# Altium footprint library IPC-SM-782 Section 11.2 SQFP_QFP-Square.PcbLib: 78 footprints (part 4 of 7)
Each footprint in its own frame and in the unit in brackets; x right, y up, seen from the top. Pads: shape width x height; smd on the part's side, far side on the other; paste and mask are expansions set on the pad; w line width, h text height; cw(c..) or ccw(c..) is an arc to the next point about the centre after c.
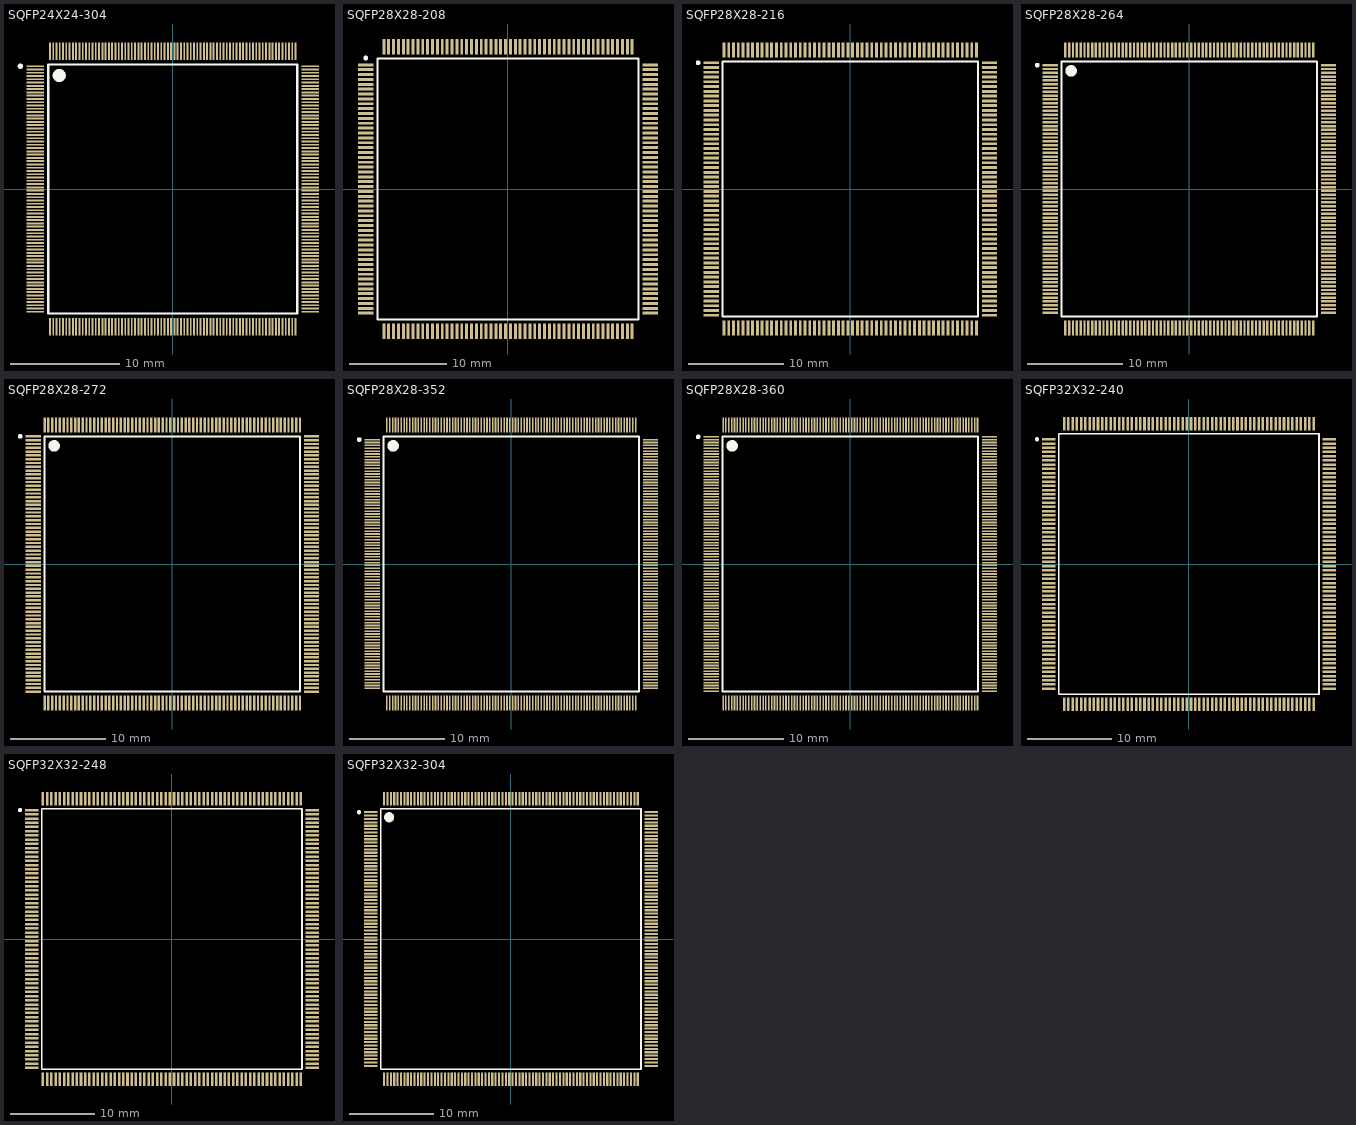
[diagram p3: the footprints below, top view; thin cyan lines are the x and y axes]

## SQFP24X24-304 [mm] "QFP; 304 Leads; Body 24 x 24 mm; Pitch 0.3 mm"
height 3.2
pads (304):
  rect 1.6x0.17 smd: 1(-12.6,11.25) 2(-12.6,10.95) 3(-12.6,10.65) 4(-12.6,10.35) 5(-12.6,10.05) 6(-12.6,9.75) 7(-12.6,9.45) 8(-12.6,9.15) 9(-12.6,8.85) 10(-12.6,8.55) 11(-12.6,8.25) 12(-12.6,7.95) 13(-12.6,7.65) 14(-12.6,7.35) 15(-12.6,7.05) 16(-12.6,6.75) 17(-12.6,6.45) 18(-12.6,6.15) 19(-12.6,5.85) 20(-12.6,5.55) 21(-12.6,5.25) 22(-12.6,4.95) 23(-12.6,4.65) 24(-12.6,4.35) 25(-12.6,4.05) 26(-12.6,3.75) 27(-12.6,3.45) 28(-12.6,3.15) 29(-12.6,2.85) 30(-12.6,2.55) 31(-12.6,2.25) 32(-12.6,1.95) 33(-12.6,1.65) 34(-12.6,1.35) 35(-12.6,1.05) 36(-12.6,0.75) 37(-12.6,0.45) 38(-12.6,0.15) 39(-12.6,-0.15) 40(-12.6,-0.45) 41(-12.6,-0.75) 42(-12.6,-1.05) 43(-12.6,-1.35) 44(-12.6,-1.65) 45(-12.6,-1.95) 46(-12.6,-2.25) 47(-12.6,-2.55) 48(-12.6,-2.85) 49(-12.6,-3.15) 50(-12.6,-3.45) 51(-12.6,-3.75) 52(-12.6,-4.05) 53(-12.6,-4.35) 54(-12.6,-4.65) 55(-12.6,-4.95) 56(-12.6,-5.25) 57(-12.6,-5.55) 58(-12.6,-5.85) 59(-12.6,-6.15) 60(-12.6,-6.45) 61(-12.6,-6.75) 62(-12.6,-7.05) 63(-12.6,-7.35) 64(-12.6,-7.65) 65(-12.6,-7.95) 66(-12.6,-8.25) 67(-12.6,-8.55) 68(-12.6,-8.85) 69(-12.6,-9.15) 70(-12.6,-9.45) 71(-12.6,-9.75) 72(-12.6,-10.05) 73(-12.6,-10.35) 74(-12.6,-10.65) 75(-12.6,-10.95) 76(-12.6,-11.25) 153(12.6,-11.25) 154(12.6,-10.95) 155(12.6,-10.65) 156(12.6,-10.35) 157(12.6,-10.05) 158(12.6,-9.75) 159(12.6,-9.45) 160(12.6,-9.15) 161(12.6,-8.85) 162(12.6,-8.55) 163(12.6,-8.25) 164(12.6,-7.95) 165(12.6,-7.65) 166(12.6,-7.35) 167(12.6,-7.05) 168(12.6,-6.75) 169(12.6,-6.45) 170(12.6,-6.15) 171(12.6,-5.85) 172(12.6,-5.55) 173(12.6,-5.25) 174(12.6,-4.95) 175(12.6,-4.65) 176(12.6,-4.35) 177(12.6,-4.05) 178(12.6,-3.75) 179(12.6,-3.45) 180(12.6,-3.15) 181(12.6,-2.85) 182(12.6,-2.55) 183(12.6,-2.25) 184(12.6,-1.95) 185(12.6,-1.65) 186(12.6,-1.35) 187(12.6,-1.05) 188(12.6,-0.75) 189(12.6,-0.45) 190(12.6,-0.15) 191(12.6,0.15) 192(12.6,0.45) 193(12.6,0.75) 194(12.6,1.05) 195(12.6,1.35) 196(12.6,1.65) 197(12.6,1.95) 198(12.6,2.25) 199(12.6,2.55) 200(12.6,2.85) 201(12.6,3.15) 202(12.6,3.45) 203(12.6,3.75) 204(12.6,4.05) 205(12.6,4.35) 206(12.6,4.65) 207(12.6,4.95) 208(12.6,5.25) 209(12.6,5.55) 210(12.6,5.85) 211(12.6,6.15) 212(12.6,6.45) 213(12.6,6.75) 214(12.6,7.05) 215(12.6,7.35) 216(12.6,7.65) 217(12.6,7.95) 218(12.6,8.25) 219(12.6,8.55) 220(12.6,8.85) 221(12.6,9.15) 222(12.6,9.45) 223(12.6,9.75) 224(12.6,10.05) 225(12.6,10.35) 226(12.6,10.65) 227(12.6,10.95) 228(12.6,11.25)
  rect 0.17x1.6 smd: 77(-11.25,-12.6) 78(-10.95,-12.6) 79(-10.65,-12.6) 80(-10.35,-12.6) 81(-10.05,-12.6) 82(-9.75,-12.6) 83(-9.45,-12.6) 84(-9.15,-12.6) 85(-8.85,-12.6) 86(-8.55,-12.6) 87(-8.25,-12.6) 88(-7.95,-12.6) 89(-7.65,-12.6) 90(-7.35,-12.6) 91(-7.05,-12.6) 92(-6.75,-12.6) 93(-6.45,-12.6) 94(-6.15,-12.6) 95(-5.85,-12.6) 96(-5.55,-12.6) 97(-5.25,-12.6) 98(-4.95,-12.6) 99(-4.65,-12.6) 100(-4.35,-12.6) 101(-4.05,-12.6) 102(-3.75,-12.6) 103(-3.45,-12.6) 104(-3.15,-12.6) 105(-2.85,-12.6) 106(-2.55,-12.6) 107(-2.25,-12.6) 108(-1.95,-12.6) 109(-1.65,-12.6) 110(-1.35,-12.6) 111(-1.05,-12.6) 112(-0.75,-12.6) 113(-0.45,-12.6) 114(-0.15,-12.6) 115(0.15,-12.6) 116(0.45,-12.6) 117(0.75,-12.6) 118(1.05,-12.6) 119(1.35,-12.6) 120(1.65,-12.6) 121(1.95,-12.6) 122(2.25,-12.6) 123(2.55,-12.6) 124(2.85,-12.6) 125(3.15,-12.6) 126(3.45,-12.6) 127(3.75,-12.6) 128(4.05,-12.6) 129(4.35,-12.6) 130(4.65,-12.6) 131(4.95,-12.6) 132(5.25,-12.6) 133(5.55,-12.6) 134(5.85,-12.6) 135(6.15,-12.6) 136(6.45,-12.6) 137(6.75,-12.6) 138(7.05,-12.6) 139(7.35,-12.6) 140(7.65,-12.6) 141(7.95,-12.6) 142(8.25,-12.6) 143(8.55,-12.6) 144(8.85,-12.6) 145(9.15,-12.6) 146(9.45,-12.6) 147(9.75,-12.6) 148(10.05,-12.6) 149(10.35,-12.6) 150(10.65,-12.6) 151(10.95,-12.6) 152(11.25,-12.6) 229(11.25,12.6) 230(10.95,12.6) 231(10.65,12.6) 232(10.35,12.6) 233(10.05,12.6) 234(9.75,12.6) 235(9.45,12.6) 236(9.15,12.6) 237(8.85,12.6) 238(8.55,12.6) 239(8.25,12.6) 240(7.95,12.6) 241(7.65,12.6) 242(7.35,12.6) 243(7.05,12.6) 244(6.75,12.6) 245(6.45,12.6) 246(6.15,12.6) 247(5.85,12.6) 248(5.55,12.6) 249(5.25,12.6) 250(4.95,12.6) 251(4.65,12.6) 252(4.35,12.6) 253(4.05,12.6) 254(3.75,12.6) 255(3.45,12.6) 256(3.15,12.6) 257(2.85,12.6) 258(2.55,12.6) 259(2.25,12.6) 260(1.95,12.6) 261(1.65,12.6) 262(1.35,12.6) 263(1.05,12.6) 264(0.75,12.6) 265(0.45,12.6) 266(0.15,12.6) 267(-0.15,12.6) 268(-0.45,12.6) 269(-0.75,12.6) 270(-1.05,12.6) 271(-1.35,12.6) 272(-1.65,12.6) 273(-1.95,12.6) 274(-2.25,12.6) 275(-2.55,12.6) 276(-2.85,12.6) 277(-3.15,12.6) 278(-3.45,12.6) 279(-3.75,12.6) 280(-4.05,12.6) 281(-4.35,12.6) 282(-4.65,12.6) 283(-4.95,12.6) 284(-5.25,12.6) 285(-5.55,12.6) 286(-5.85,12.6) 287(-6.15,12.6) 288(-6.45,12.6) 289(-6.75,12.6) 290(-7.05,12.6) 291(-7.35,12.6) 292(-7.65,12.6) 293(-7.95,12.6) 294(-8.25,12.6) 295(-8.55,12.6) 296(-8.85,12.6) 297(-9.15,12.6) 298(-9.45,12.6) 299(-9.75,12.6) 300(-10.05,12.6) 301(-10.35,12.6) 302(-10.65,12.6) 303(-10.95,12.6) 304(-11.25,12.6)
Top Overlay:
  circle w0.6: c-10.4,10.4 r0.3
  circle w0.25: c-13.96,11.25 r0.125
  lines w0.2: -11.4,-11.4 -11.4,11.4 11.4,11.4 11.4,-11.4 -11.4,-11.4

## SQFP28X28-208 [mm] "QFP; 208 Leads; Body 28 x 28 mm; Pitch 0.5 mm"
height 3.75
pads (208):
  rect 1.6x0.3 smd: 1(-14.6,12.75) 2(-14.6,12.25) 3(-14.6,11.75) 4(-14.6,11.25) 5(-14.6,10.75) 6(-14.6,10.25) 7(-14.6,9.75) 8(-14.6,9.25) 9(-14.6,8.75) 10(-14.6,8.25) 11(-14.6,7.75) 12(-14.6,7.25) 13(-14.6,6.75) 14(-14.6,6.25) 15(-14.6,5.75) 16(-14.6,5.25) 17(-14.6,4.75) 18(-14.6,4.25) 19(-14.6,3.75) 20(-14.6,3.25) 21(-14.6,2.75) 22(-14.6,2.25) 23(-14.6,1.75) 24(-14.6,1.25) 25(-14.6,0.75) 26(-14.6,0.25) 27(-14.6,-0.25) 28(-14.6,-0.75) 29(-14.6,-1.25) 30(-14.6,-1.75) 31(-14.6,-2.25) 32(-14.6,-2.75) 33(-14.6,-3.25) 34(-14.6,-3.75) 35(-14.6,-4.25) 36(-14.6,-4.75) 37(-14.6,-5.25) 38(-14.6,-5.75) 39(-14.6,-6.25) 40(-14.6,-6.75) 41(-14.6,-7.25) 42(-14.6,-7.75) 43(-14.6,-8.25) 44(-14.6,-8.75) 45(-14.6,-9.25) 46(-14.6,-9.75) 47(-14.6,-10.25) 48(-14.6,-10.75) 49(-14.6,-11.25) 50(-14.6,-11.75) 51(-14.6,-12.25) 52(-14.6,-12.75) 105(14.6,-12.75) 106(14.6,-12.25) 107(14.6,-11.75) 108(14.6,-11.25) 109(14.6,-10.75) 110(14.6,-10.25) 111(14.6,-9.75) 112(14.6,-9.25) 113(14.6,-8.75) 114(14.6,-8.25) 115(14.6,-7.75) 116(14.6,-7.25) 117(14.6,-6.75) 118(14.6,-6.25) 119(14.6,-5.75) 120(14.6,-5.25) 121(14.6,-4.75) 122(14.6,-4.25) 123(14.6,-3.75) 124(14.6,-3.25) 125(14.6,-2.75) 126(14.6,-2.25) 127(14.6,-1.75) 128(14.6,-1.25) 129(14.6,-0.75) 130(14.6,-0.25) 131(14.6,0.25) 132(14.6,0.75) 133(14.6,1.25) 134(14.6,1.75) 135(14.6,2.25) 136(14.6,2.75) 137(14.6,3.25) 138(14.6,3.75) 139(14.6,4.25) 140(14.6,4.75) 141(14.6,5.25) 142(14.6,5.75) 143(14.6,6.25) 144(14.6,6.75) 145(14.6,7.25) 146(14.6,7.75) 147(14.6,8.25) 148(14.6,8.75) 149(14.6,9.25) 150(14.6,9.75) 151(14.6,10.25) 152(14.6,10.75) 153(14.6,11.25) 154(14.6,11.75) 155(14.6,12.25) 156(14.6,12.75)
  rect 0.3x1.6 smd: 53(-12.75,-14.6) 54(-12.25,-14.6) 55(-11.75,-14.6) 56(-11.25,-14.6) 57(-10.75,-14.6) 58(-10.25,-14.6) 59(-9.75,-14.6) 60(-9.25,-14.6) 61(-8.75,-14.6) 62(-8.25,-14.6) 63(-7.75,-14.6) 64(-7.25,-14.6) 65(-6.75,-14.6) 66(-6.25,-14.6) 67(-5.75,-14.6) 68(-5.25,-14.6) 69(-4.75,-14.6) 70(-4.25,-14.6) 71(-3.75,-14.6) 72(-3.25,-14.6) 73(-2.75,-14.6) 74(-2.25,-14.6) 75(-1.75,-14.6) 76(-1.25,-14.6) 77(-0.75,-14.6) 78(-0.25,-14.6) 79(0.25,-14.6) 80(0.75,-14.6) 81(1.25,-14.6) 82(1.75,-14.6) 83(2.25,-14.6) 84(2.75,-14.6) 85(3.25,-14.6) 86(3.75,-14.6) 87(4.25,-14.6) 88(4.75,-14.6) 89(5.25,-14.6) 90(5.75,-14.6) 91(6.25,-14.6) 92(6.75,-14.6) 93(7.25,-14.6) 94(7.75,-14.6) 95(8.25,-14.6) 96(8.75,-14.6) 97(9.25,-14.6) 98(9.75,-14.6) 99(10.25,-14.6) 100(10.75,-14.6) 101(11.25,-14.6) 102(11.75,-14.6) 103(12.25,-14.6) 104(12.75,-14.6) 157(12.75,14.6) 158(12.25,14.6) 159(11.75,14.6) 160(11.25,14.6) 161(10.75,14.6) 162(10.25,14.6) 163(9.75,14.6) 164(9.25,14.6) 165(8.75,14.6) 166(8.25,14.6) 167(7.75,14.6) 168(7.25,14.6) 169(6.75,14.6) 170(6.25,14.6) 171(5.75,14.6) 172(5.25,14.6) 173(4.75,14.6) 174(4.25,14.6) 175(3.75,14.6) 176(3.25,14.6) 177(2.75,14.6) 178(2.25,14.6) 179(1.75,14.6) 180(1.25,14.6) 181(0.75,14.6) 182(0.25,14.6) 183(-0.25,14.6) 184(-0.75,14.6) 185(-1.25,14.6) 186(-1.75,14.6) 187(-2.25,14.6) 188(-2.75,14.6) 189(-3.25,14.6) 190(-3.75,14.6) 191(-4.25,14.6) 192(-4.75,14.6) 193(-5.25,14.6) 194(-5.75,14.6) 195(-6.25,14.6) 196(-6.75,14.6) 197(-7.25,14.6) 198(-7.75,14.6) 199(-8.25,14.6) 200(-8.75,14.6) 201(-9.25,14.6) 202(-9.75,14.6) 203(-10.25,14.6) 204(-10.75,14.6) 205(-11.25,14.6) 206(-11.75,14.6) 207(-12.25,14.6) 208(-12.75,14.6)
Top Overlay:
  circle w0.25: c-14.6,13.45 r0.125
  lines w0.2: -13.4,-13.4 13.4,-13.4 13.4,13.4 -13.4,13.4 -13.4,-13.4

## SQFP28X28-216 [mm] "QFP; 216 Leads; Body 28 x 28 mm; Pitch 0.5 mm"
height 3.75
pads (216):
  rect 1.6x0.3 smd: 1(-14.6,13.25) 2(-14.6,12.75) 3(-14.6,12.25) 4(-14.6,11.75) 5(-14.6,11.25) 6(-14.6,10.75) 7(-14.6,10.25) 8(-14.6,9.75) 9(-14.6,9.25) 10(-14.6,8.75) 11(-14.6,8.25) 12(-14.6,7.75) 13(-14.6,7.25) 14(-14.6,6.75) 15(-14.6,6.25) 16(-14.6,5.75) 17(-14.6,5.25) 18(-14.6,4.75) 19(-14.6,4.25) 20(-14.6,3.75) 21(-14.6,3.25) 22(-14.6,2.75) 23(-14.6,2.25) 24(-14.6,1.75) 25(-14.6,1.25) 26(-14.6,0.75) 27(-14.6,0.25) 28(-14.6,-0.25) 29(-14.6,-0.75) 30(-14.6,-1.25) 31(-14.6,-1.75) 32(-14.6,-2.25) 33(-14.6,-2.75) 34(-14.6,-3.25) 35(-14.6,-3.75) 36(-14.6,-4.25) 37(-14.6,-4.75) 38(-14.6,-5.25) 39(-14.6,-5.75) 40(-14.6,-6.25) 41(-14.6,-6.75) 42(-14.6,-7.25) 43(-14.6,-7.75) 44(-14.6,-8.25) 45(-14.6,-8.75) 46(-14.6,-9.25) 47(-14.6,-9.75) 48(-14.6,-10.25) 49(-14.6,-10.75) 50(-14.6,-11.25) 51(-14.6,-11.75) 52(-14.6,-12.25) 53(-14.6,-12.75) 54(-14.6,-13.25) 109(14.6,-13.25) 110(14.6,-12.75) 111(14.6,-12.25) 112(14.6,-11.75) 113(14.6,-11.25) 114(14.6,-10.75) 115(14.6,-10.25) 116(14.6,-9.75) 117(14.6,-9.25) 118(14.6,-8.75) 119(14.6,-8.25) 120(14.6,-7.75) 121(14.6,-7.25) 122(14.6,-6.75) 123(14.6,-6.25) 124(14.6,-5.75) 125(14.6,-5.25) 126(14.6,-4.75) 127(14.6,-4.25) 128(14.6,-3.75) 129(14.6,-3.25) 130(14.6,-2.75) 131(14.6,-2.25) 132(14.6,-1.75) 133(14.6,-1.25) 134(14.6,-0.75) 135(14.6,-0.25) 136(14.6,0.25) 137(14.6,0.75) 138(14.6,1.25) 139(14.6,1.75) 140(14.6,2.25) 141(14.6,2.75) 142(14.6,3.25) 143(14.6,3.75) 144(14.6,4.25) 145(14.6,4.75) 146(14.6,5.25) 147(14.6,5.75) 148(14.6,6.25) 149(14.6,6.75) 150(14.6,7.25) 151(14.6,7.75) 152(14.6,8.25) 153(14.6,8.75) 154(14.6,9.25) 155(14.6,9.75) 156(14.6,10.25) 157(14.6,10.75) 158(14.6,11.25) 159(14.6,11.75) 160(14.6,12.25) 161(14.6,12.75) 162(14.6,13.25)
  rect 0.3x1.6 smd: 55(-13.25,-14.6) 56(-12.75,-14.6) 57(-12.25,-14.6) 58(-11.75,-14.6) 59(-11.25,-14.6) 60(-10.75,-14.6) 61(-10.25,-14.6) 62(-9.75,-14.6) 63(-9.25,-14.6) 64(-8.75,-14.6) 65(-8.25,-14.6) 66(-7.75,-14.6) 67(-7.25,-14.6) 68(-6.75,-14.6) 69(-6.25,-14.6) 70(-5.75,-14.6) 71(-5.25,-14.6) 72(-4.75,-14.6) 73(-4.25,-14.6) 74(-3.75,-14.6) 75(-3.25,-14.6) 76(-2.75,-14.6) 77(-2.25,-14.6) 78(-1.75,-14.6) 79(-1.25,-14.6) 80(-0.75,-14.6) 81(-0.25,-14.6) 82(0.25,-14.6) 83(0.75,-14.6) 84(1.25,-14.6) 85(1.75,-14.6) 86(2.25,-14.6) 87(2.75,-14.6) 88(3.25,-14.6) 89(3.75,-14.6) 90(4.25,-14.6) 91(4.75,-14.6) 92(5.25,-14.6) 93(5.75,-14.6) 94(6.25,-14.6) 95(6.75,-14.6) 96(7.25,-14.6) 97(7.75,-14.6) 98(8.25,-14.6) 99(8.75,-14.6) 100(9.25,-14.6) 101(9.75,-14.6) 102(10.25,-14.6) 103(10.75,-14.6) 104(11.25,-14.6) 105(11.75,-14.6) 106(12.25,-14.6) 107(12.75,-14.6) 108(13.25,-14.6) 163(13.25,14.6) 164(12.75,14.6) 165(12.25,14.6) 166(11.75,14.6) 167(11.25,14.6) 168(10.75,14.6) 169(10.25,14.6) 170(9.75,14.6) 171(9.25,14.6) 172(8.75,14.6) 173(8.25,14.6) 174(7.75,14.6) 175(7.25,14.6) 176(6.75,14.6) 177(6.25,14.6) 178(5.75,14.6) 179(5.25,14.6) 180(4.75,14.6) 181(4.25,14.6) 182(3.75,14.6) 183(3.25,14.6) 184(2.75,14.6) 185(2.25,14.6) 186(1.75,14.6) 187(1.25,14.6) 188(0.75,14.6) 189(0.25,14.6) 190(-0.25,14.6) 191(-0.75,14.6) 192(-1.25,14.6) 193(-1.75,14.6) 194(-2.25,14.6) 195(-2.75,14.6) 196(-3.25,14.6) 197(-3.75,14.6) 198(-4.25,14.6) 199(-4.75,14.6) 200(-5.25,14.6) 201(-5.75,14.6) 202(-6.25,14.6) 203(-6.75,14.6) 204(-7.25,14.6) 205(-7.75,14.6) 206(-8.25,14.6) 207(-8.75,14.6) 208(-9.25,14.6) 209(-9.75,14.6) 210(-10.25,14.6) 211(-10.75,14.6) 212(-11.25,14.6) 213(-11.75,14.6) 214(-12.25,14.6) 215(-12.75,14.6) 216(-13.25,14.6)
Top Overlay:
  circle w0.25: c-15.96,13.25 r0.125
  lines w0.2: -13.4,-13.4 13.4,-13.4 13.4,13.4 -13.4,13.4 -13.4,-13.4

## SQFP28X28-264 [mm] "QFP; 264 Leads; Body 28 x 28 mm; Pitch 0.4 mm"
height 3.75
pads (264):
  rect 1.6x0.25 smd: 1(-14.6,13) 2(-14.6,12.6) 3(-14.6,12.2) 4(-14.6,11.8) 5(-14.6,11.4) 6(-14.6,11) 7(-14.6,10.6) 8(-14.6,10.2) 9(-14.6,9.8) 10(-14.6,9.4) 11(-14.6,9) 12(-14.6,8.6) 13(-14.6,8.2) 14(-14.6,7.8) 15(-14.6,7.4) 16(-14.6,7) 17(-14.6,6.6) 18(-14.6,6.2) 19(-14.6,5.8) 20(-14.6,5.4) 21(-14.6,5) 22(-14.6,4.6) 23(-14.6,4.2) 24(-14.6,3.8) 25(-14.6,3.4) 26(-14.6,3) 27(-14.6,2.6) 28(-14.6,2.2) 29(-14.6,1.8) 30(-14.6,1.4) 31(-14.6,1) 32(-14.6,0.6) 33(-14.6,0.2) 34(-14.6,-0.2) 35(-14.6,-0.6) 36(-14.6,-1) 37(-14.6,-1.4) 38(-14.6,-1.8) 39(-14.6,-2.2) 40(-14.6,-2.6) 41(-14.6,-3) 42(-14.6,-3.4) 43(-14.6,-3.8) 44(-14.6,-4.2) 45(-14.6,-4.6) 46(-14.6,-5) 47(-14.6,-5.4) 48(-14.6,-5.8) 49(-14.6,-6.2) 50(-14.6,-6.6) 51(-14.6,-7) 52(-14.6,-7.4) 53(-14.6,-7.8) 54(-14.6,-8.2) 55(-14.6,-8.6) 56(-14.6,-9) 57(-14.6,-9.4) 58(-14.6,-9.8) 59(-14.6,-10.2) 60(-14.6,-10.6) 61(-14.6,-11) 62(-14.6,-11.4) 63(-14.6,-11.8) 64(-14.6,-12.2) 65(-14.6,-12.6) 66(-14.6,-13) 133(14.6,-13) 134(14.6,-12.6) 135(14.6,-12.2) 136(14.6,-11.8) 137(14.6,-11.4) 138(14.6,-11) 139(14.6,-10.6) 140(14.6,-10.2) 141(14.6,-9.8) 142(14.6,-9.4) 143(14.6,-9) 144(14.6,-8.6) 145(14.6,-8.2) 146(14.6,-7.8) 147(14.6,-7.4) 148(14.6,-7) 149(14.6,-6.6) 150(14.6,-6.2) 151(14.6,-5.8) 152(14.6,-5.4) 153(14.6,-5) 154(14.6,-4.6) 155(14.6,-4.2) 156(14.6,-3.8) 157(14.6,-3.4) 158(14.6,-3) 159(14.6,-2.6) 160(14.6,-2.2) 161(14.6,-1.8) 162(14.6,-1.4) 163(14.6,-1) 164(14.6,-0.6) 165(14.6,-0.2) 166(14.6,0.2) 167(14.6,0.6) 168(14.6,1) 169(14.6,1.4) 170(14.6,1.8) 171(14.6,2.2) 172(14.6,2.6) 173(14.6,3) 174(14.6,3.4) 175(14.6,3.8) 176(14.6,4.2) 177(14.6,4.6) 178(14.6,5) 179(14.6,5.4) 180(14.6,5.8) 181(14.6,6.2) 182(14.6,6.6) 183(14.6,7) 184(14.6,7.4) 185(14.6,7.8) 186(14.6,8.2) 187(14.6,8.6) 188(14.6,9) 189(14.6,9.4) 190(14.6,9.8) 191(14.6,10.2) 192(14.6,10.6) 193(14.6,11) 194(14.6,11.4) 195(14.6,11.8) 196(14.6,12.2) 197(14.6,12.6) 198(14.6,13)
  rect 0.25x1.6 smd: 67(-13,-14.6) 68(-12.6,-14.6) 69(-12.2,-14.6) 70(-11.8,-14.6) 71(-11.4,-14.6) 72(-11,-14.6) 73(-10.6,-14.6) 74(-10.2,-14.6) 75(-9.8,-14.6) 76(-9.4,-14.6) 77(-9,-14.6) 78(-8.6,-14.6) 79(-8.2,-14.6) 80(-7.8,-14.6) 81(-7.4,-14.6) 82(-7,-14.6) 83(-6.6,-14.6) 84(-6.2,-14.6) 85(-5.8,-14.6) 86(-5.4,-14.6) 87(-5,-14.6) 88(-4.6,-14.6) 89(-4.2,-14.6) 90(-3.8,-14.6) 91(-3.4,-14.6) 92(-3,-14.6) 93(-2.6,-14.6) 94(-2.2,-14.6) 95(-1.8,-14.6) 96(-1.4,-14.6) 97(-1,-14.6) 98(-0.6,-14.6) 99(-0.2,-14.6) 100(0.2,-14.6) 101(0.6,-14.6) 102(1,-14.6) 103(1.4,-14.6) 104(1.8,-14.6) 105(2.2,-14.6) 106(2.6,-14.6) 107(3,-14.6) 108(3.4,-14.6) 109(3.8,-14.6) 110(4.2,-14.6) 111(4.6,-14.6) 112(5,-14.6) 113(5.4,-14.6) 114(5.8,-14.6) 115(6.2,-14.6) 116(6.6,-14.6) 117(7,-14.6) 118(7.4,-14.6) 119(7.8,-14.6) 120(8.2,-14.6) 121(8.6,-14.6) 122(9,-14.6) 123(9.4,-14.6) 124(9.8,-14.6) 125(10.2,-14.6) 126(10.6,-14.6) 127(11,-14.6) 128(11.4,-14.6) 129(11.8,-14.6) 130(12.2,-14.6) 131(12.6,-14.6) 132(13,-14.6) 199(13,14.6) 200(12.6,14.6) 201(12.2,14.6) 202(11.8,14.6) 203(11.4,14.6) 204(11,14.6) 205(10.6,14.6) 206(10.2,14.6) 207(9.8,14.6) 208(9.4,14.6) 209(9,14.6) 210(8.6,14.6) 211(8.2,14.6) 212(7.8,14.6) 213(7.4,14.6) 214(7,14.6) 215(6.6,14.6) 216(6.2,14.6) 217(5.8,14.6) 218(5.4,14.6) 219(5,14.6) 220(4.6,14.6) 221(4.2,14.6) 222(3.8,14.6) 223(3.4,14.6) 224(3,14.6) 225(2.6,14.6) 226(2.2,14.6) 227(1.8,14.6) 228(1.4,14.6) 229(1,14.6) 230(0.6,14.6) 231(0.2,14.6) 232(-0.2,14.6) 233(-0.6,14.6) 234(-1,14.6) 235(-1.4,14.6) 236(-1.8,14.6) 237(-2.2,14.6) 238(-2.6,14.6) 239(-3,14.6) 240(-3.4,14.6) 241(-3.8,14.6) 242(-4.2,14.6) 243(-4.6,14.6) 244(-5,14.6) 245(-5.4,14.6) 246(-5.8,14.6) 247(-6.2,14.6) 248(-6.6,14.6) 249(-7,14.6) 250(-7.4,14.6) 251(-7.8,14.6) 252(-8.2,14.6) 253(-8.6,14.6) 254(-9,14.6) 255(-9.4,14.6) 256(-9.8,14.6) 257(-10.2,14.6) 258(-10.6,14.6) 259(-11,14.6) 260(-11.4,14.6) 261(-11.8,14.6) 262(-12.2,14.6) 263(-12.6,14.6) 264(-13,14.6)
Top Overlay:
  circle w0.6: c-12.4,12.4 r0.3
  circle w0.25: c-15.96,13 r0.125
  lines w0.2: -13.4,-13.4 13.4,-13.4 13.4,13.4 -13.4,13.4 -13.4,-13.4

## SQFP28X28-272 [mm] "QFP; 272 Leads; Body 28 x 28 mm; Pitch 0.4 mm"
height 3.75
pads (272):
  rect 1.6x0.25 smd: 1(-14.6,13.4) 2(-14.6,13) 3(-14.6,12.6) 4(-14.6,12.2) 5(-14.6,11.8) 6(-14.6,11.4) 7(-14.6,11) 8(-14.6,10.6) 9(-14.6,10.2) 10(-14.6,9.8) 11(-14.6,9.4) 12(-14.6,9) 13(-14.6,8.6) 14(-14.6,8.2) 15(-14.6,7.8) 16(-14.6,7.4) 17(-14.6,7) 18(-14.6,6.6) 19(-14.6,6.2) 20(-14.6,5.8) 21(-14.6,5.4) 22(-14.6,5) 23(-14.6,4.6) 24(-14.6,4.2) 25(-14.6,3.8) 26(-14.6,3.4) 27(-14.6,3) 28(-14.6,2.6) 29(-14.6,2.2) 30(-14.6,1.8) 31(-14.6,1.4) 32(-14.6,1) 33(-14.6,0.6) 34(-14.6,0.2) 35(-14.6,-0.2) 36(-14.6,-0.6) 37(-14.6,-1) 38(-14.6,-1.4) 39(-14.6,-1.8) 40(-14.6,-2.2) 41(-14.6,-2.6) 42(-14.6,-3) 43(-14.6,-3.4) 44(-14.6,-3.8) 45(-14.6,-4.2) 46(-14.6,-4.6) 47(-14.6,-5) 48(-14.6,-5.4) 49(-14.6,-5.8) 50(-14.6,-6.2) 51(-14.6,-6.6) 52(-14.6,-7) 53(-14.6,-7.4) 54(-14.6,-7.8) 55(-14.6,-8.2) 56(-14.6,-8.6) 57(-14.6,-9) 58(-14.6,-9.4) 59(-14.6,-9.8) 60(-14.6,-10.2) 61(-14.6,-10.6) 62(-14.6,-11) 63(-14.6,-11.4) 64(-14.6,-11.8) 65(-14.6,-12.2) 66(-14.6,-12.6) 67(-14.6,-13) 68(-14.6,-13.4) 137(14.6,-13.4) 138(14.6,-13) 139(14.6,-12.6) 140(14.6,-12.2) 141(14.6,-11.8) 142(14.6,-11.4) 143(14.6,-11) 144(14.6,-10.6) 145(14.6,-10.2) 146(14.6,-9.8) 147(14.6,-9.4) 148(14.6,-9) 149(14.6,-8.6) 150(14.6,-8.2) 151(14.6,-7.8) 152(14.6,-7.4) 153(14.6,-7) 154(14.6,-6.6) 155(14.6,-6.2) 156(14.6,-5.8) 157(14.6,-5.4) 158(14.6,-5) 159(14.6,-4.6) 160(14.6,-4.2) 161(14.6,-3.8) 162(14.6,-3.4) 163(14.6,-3) 164(14.6,-2.6) 165(14.6,-2.2) 166(14.6,-1.8) 167(14.6,-1.4) 168(14.6,-1) 169(14.6,-0.6) 170(14.6,-0.2) 171(14.6,0.2) 172(14.6,0.6) 173(14.6,1) 174(14.6,1.4) 175(14.6,1.8) 176(14.6,2.2) 177(14.6,2.6) 178(14.6,3) 179(14.6,3.4) 180(14.6,3.8) 181(14.6,4.2) 182(14.6,4.6) 183(14.6,5) 184(14.6,5.4) 185(14.6,5.8) 186(14.6,6.2) 187(14.6,6.6) 188(14.6,7) 189(14.6,7.4) 190(14.6,7.8) 191(14.6,8.2) 192(14.6,8.6) 193(14.6,9) 194(14.6,9.4) 195(14.6,9.8) 196(14.6,10.2) 197(14.6,10.6) 198(14.6,11) 199(14.6,11.4) 200(14.6,11.8) 201(14.6,12.2) 202(14.6,12.6) 203(14.6,13) 204(14.6,13.4)
  rect 0.25x1.6 smd: 69(-13.4,-14.6) 70(-13,-14.6) 71(-12.6,-14.6) 72(-12.2,-14.6) 73(-11.8,-14.6) 74(-11.4,-14.6) 75(-11,-14.6) 76(-10.6,-14.6) 77(-10.2,-14.6) 78(-9.8,-14.6) 79(-9.4,-14.6) 80(-9,-14.6) 81(-8.6,-14.6) 82(-8.2,-14.6) 83(-7.8,-14.6) 84(-7.4,-14.6) 85(-7,-14.6) 86(-6.6,-14.6) 87(-6.2,-14.6) 88(-5.8,-14.6) 89(-5.4,-14.6) 90(-5,-14.6) 91(-4.6,-14.6) 92(-4.2,-14.6) 93(-3.8,-14.6) 94(-3.4,-14.6) 95(-3,-14.6) 96(-2.6,-14.6) 97(-2.2,-14.6) 98(-1.8,-14.6) 99(-1.4,-14.6) 100(-1,-14.6) 101(-0.6,-14.6) 102(-0.2,-14.6) 103(0.2,-14.6) 104(0.6,-14.6) 105(1,-14.6) 106(1.4,-14.6) 107(1.8,-14.6) 108(2.2,-14.6) 109(2.6,-14.6) 110(3,-14.6) 111(3.4,-14.6) 112(3.8,-14.6) 113(4.2,-14.6) 114(4.6,-14.6) 115(5,-14.6) 116(5.4,-14.6) 117(5.8,-14.6) 118(6.2,-14.6) 119(6.6,-14.6) 120(7,-14.6) 121(7.4,-14.6) 122(7.8,-14.6) 123(8.2,-14.6) 124(8.6,-14.6) 125(9,-14.6) 126(9.4,-14.6) 127(9.8,-14.6) 128(10.2,-14.6) 129(10.6,-14.6) 130(11,-14.6) 131(11.4,-14.6) 132(11.8,-14.6) 133(12.2,-14.6) 134(12.6,-14.6) 135(13,-14.6) 136(13.4,-14.6) 205(13.4,14.6) 206(13,14.6) 207(12.6,14.6) 208(12.2,14.6) 209(11.8,14.6) 210(11.4,14.6) 211(11,14.6) 212(10.6,14.6) 213(10.2,14.6) 214(9.8,14.6) 215(9.4,14.6) 216(9,14.6) 217(8.6,14.6) 218(8.2,14.6) 219(7.8,14.6) 220(7.4,14.6) 221(7,14.6) 222(6.6,14.6) 223(6.2,14.6) 224(5.8,14.6) 225(5.4,14.6) 226(5,14.6) 227(4.6,14.6) 228(4.2,14.6) 229(3.8,14.6) 230(3.4,14.6) 231(3,14.6) 232(2.6,14.6) 233(2.2,14.6) 234(1.8,14.6) 235(1.4,14.6) 236(1,14.6) 237(0.6,14.6) 238(0.2,14.6) 239(-0.2,14.6) 240(-0.6,14.6) 241(-1,14.6) 242(-1.4,14.6) 243(-1.8,14.6) 244(-2.2,14.6) 245(-2.6,14.6) 246(-3,14.6) 247(-3.4,14.6) 248(-3.8,14.6) 249(-4.2,14.6) 250(-4.6,14.6) 251(-5,14.6) 252(-5.4,14.6) 253(-5.8,14.6) 254(-6.2,14.6) 255(-6.6,14.6) 256(-7,14.6) 257(-7.4,14.6) 258(-7.8,14.6) 259(-8.2,14.6) 260(-8.6,14.6) 261(-9,14.6) 262(-9.4,14.6) 263(-9.8,14.6) 264(-10.2,14.6) 265(-10.6,14.6) 266(-11,14.6) 267(-11.4,14.6) 268(-11.8,14.6) 269(-12.2,14.6) 270(-12.6,14.6) 271(-13,14.6) 272(-13.4,14.6)
Top Overlay:
  circle w0.25: c-15.96,13.4 r0.125
  circle w0.6: c-12.4,12.4 r0.3
  lines w0.2: -13.4,-13.4 -13.4,13.4 13.4,13.4 13.4,-13.4 -13.4,-13.4

## SQFP28X28-352 [mm] "QFP; 352 Leads; Body 28 x 28 mm; Pitch 0.3 mm"
height 3.75
pads (352):
  rect 1.6x0.17 smd: 1(-14.6,13.05) 2(-14.6,12.75) 3(-14.6,12.45) 4(-14.6,12.15) 5(-14.6,11.85) 6(-14.6,11.55) 7(-14.6,11.25) 8(-14.6,10.95) 9(-14.6,10.65) 10(-14.6,10.35) 11(-14.6,10.05) 12(-14.6,9.75) 13(-14.6,9.45) 14(-14.6,9.15) 15(-14.6,8.85) 16(-14.6,8.55) 17(-14.6,8.25) 18(-14.6,7.95) 19(-14.6,7.65) 20(-14.6,7.35) 21(-14.6,7.05) 22(-14.6,6.75) 23(-14.6,6.45) 24(-14.6,6.15) 25(-14.6,5.85) 26(-14.6,5.55) 27(-14.6,5.25) 28(-14.6,4.95) 29(-14.6,4.65) 30(-14.6,4.35) 31(-14.6,4.05) 32(-14.6,3.75) 33(-14.6,3.45) 34(-14.6,3.15) 35(-14.6,2.85) 36(-14.6,2.55) 37(-14.6,2.25) 38(-14.6,1.95) 39(-14.6,1.65) 40(-14.6,1.35) 41(-14.6,1.05) 42(-14.6,0.75) 43(-14.6,0.45) 44(-14.6,0.15) 45(-14.6,-0.15) 46(-14.6,-0.45) 47(-14.6,-0.75) 48(-14.6,-1.05) 49(-14.6,-1.35) 50(-14.6,-1.65) 51(-14.6,-1.95) 52(-14.6,-2.25) 53(-14.6,-2.55) 54(-14.6,-2.85) 55(-14.6,-3.15) 56(-14.6,-3.45) 57(-14.6,-3.75) 58(-14.6,-4.05) 59(-14.6,-4.35) 60(-14.6,-4.65) 61(-14.6,-4.95) 62(-14.6,-5.25) 63(-14.6,-5.55) 64(-14.6,-5.85) 65(-14.6,-6.15) 66(-14.6,-6.45) 67(-14.6,-6.75) 68(-14.6,-7.05) 69(-14.6,-7.35) 70(-14.6,-7.65) 71(-14.6,-7.95) 72(-14.6,-8.25) 73(-14.6,-8.55) 74(-14.6,-8.85) 75(-14.6,-9.15) 76(-14.6,-9.45) 77(-14.6,-9.75) 78(-14.6,-10.05) 79(-14.6,-10.35) 80(-14.6,-10.65) 81(-14.6,-10.95) 82(-14.6,-11.25) 83(-14.6,-11.55) 84(-14.6,-11.85) 85(-14.6,-12.15) 86(-14.6,-12.45) 87(-14.6,-12.75) 88(-14.6,-13.05) 177(14.6,-13.05) 178(14.6,-12.75) 179(14.6,-12.45) 180(14.6,-12.15) 181(14.6,-11.85) 182(14.6,-11.55) 183(14.6,-11.25) 184(14.6,-10.95) 185(14.6,-10.65) 186(14.6,-10.35) 187(14.6,-10.05) 188(14.6,-9.75) 189(14.6,-9.45) 190(14.6,-9.15) 191(14.6,-8.85) 192(14.6,-8.55) 193(14.6,-8.25) 194(14.6,-7.95) 195(14.6,-7.65) 196(14.6,-7.35) 197(14.6,-7.05) 198(14.6,-6.75) 199(14.6,-6.45) 200(14.6,-6.15) 201(14.6,-5.85) 202(14.6,-5.55) 203(14.6,-5.25) 204(14.6,-4.95) 205(14.6,-4.65) 206(14.6,-4.35) 207(14.6,-4.05) 208(14.6,-3.75) 209(14.6,-3.45) 210(14.6,-3.15) 211(14.6,-2.85) 212(14.6,-2.55) 213(14.6,-2.25) 214(14.6,-1.95) 215(14.6,-1.65) 216(14.6,-1.35) 217(14.6,-1.05) 218(14.6,-0.75) 219(14.6,-0.45) 220(14.6,-0.15) 221(14.6,0.15) 222(14.6,0.45) 223(14.6,0.75) 224(14.6,1.05) 225(14.6,1.35) 226(14.6,1.65) 227(14.6,1.95) 228(14.6,2.25) 229(14.6,2.55) 230(14.6,2.85) 231(14.6,3.15) 232(14.6,3.45) 233(14.6,3.75) 234(14.6,4.05) 235(14.6,4.35) 236(14.6,4.65) 237(14.6,4.95) 238(14.6,5.25) 239(14.6,5.55) 240(14.6,5.85) 241(14.6,6.15) 242(14.6,6.45) 243(14.6,6.75) 244(14.6,7.05) 245(14.6,7.35) 246(14.6,7.65) 247(14.6,7.95) 248(14.6,8.25) 249(14.6,8.55) 250(14.6,8.85) 251(14.6,9.15) 252(14.6,9.45) 253(14.6,9.75) 254(14.6,10.05) 255(14.6,10.35) 256(14.6,10.65) 257(14.6,10.95) 258(14.6,11.25) 259(14.6,11.55) 260(14.6,11.85) 261(14.6,12.15) 262(14.6,12.45) 263(14.6,12.75) 264(14.6,13.05)
  rect 0.17x1.6 smd: 89(-13.05,-14.6) 90(-12.75,-14.6) 91(-12.45,-14.6) 92(-12.15,-14.6) 93(-11.85,-14.6) 94(-11.55,-14.6) 95(-11.25,-14.6) 96(-10.95,-14.6) 97(-10.65,-14.6) 98(-10.35,-14.6) 99(-10.05,-14.6) 100(-9.75,-14.6) 101(-9.45,-14.6) 102(-9.15,-14.6) 103(-8.85,-14.6) 104(-8.55,-14.6) 105(-8.25,-14.6) 106(-7.95,-14.6) 107(-7.65,-14.6) 108(-7.35,-14.6) 109(-7.05,-14.6) 110(-6.75,-14.6) 111(-6.45,-14.6) 112(-6.15,-14.6) 113(-5.85,-14.6) 114(-5.55,-14.6) 115(-5.25,-14.6) 116(-4.95,-14.6) 117(-4.65,-14.6) 118(-4.35,-14.6) 119(-4.05,-14.6) 120(-3.75,-14.6) 121(-3.45,-14.6) 122(-3.15,-14.6) 123(-2.85,-14.6) 124(-2.55,-14.6) 125(-2.25,-14.6) 126(-1.95,-14.6) 127(-1.65,-14.6) 128(-1.35,-14.6) 129(-1.05,-14.6) 130(-0.75,-14.6) 131(-0.45,-14.6) 132(-0.15,-14.6) 133(0.15,-14.6) 134(0.45,-14.6) 135(0.75,-14.6) 136(1.05,-14.6) 137(1.35,-14.6) 138(1.65,-14.6) 139(1.95,-14.6) 140(2.25,-14.6) 141(2.55,-14.6) 142(2.85,-14.6) 143(3.15,-14.6) 144(3.45,-14.6) 145(3.75,-14.6) 146(4.05,-14.6) 147(4.35,-14.6) 148(4.65,-14.6) 149(4.95,-14.6) 150(5.25,-14.6) 151(5.55,-14.6) 152(5.85,-14.6) 153(6.15,-14.6) 154(6.45,-14.6) 155(6.75,-14.6) 156(7.05,-14.6) 157(7.35,-14.6) 158(7.65,-14.6) 159(7.95,-14.6) 160(8.25,-14.6) 161(8.55,-14.6) 162(8.85,-14.6) 163(9.15,-14.6) 164(9.45,-14.6) 165(9.75,-14.6) 166(10.05,-14.6) 167(10.35,-14.6) 168(10.65,-14.6) 169(10.95,-14.6) 170(11.25,-14.6) 171(11.55,-14.6) 172(11.85,-14.6) 173(12.15,-14.6) 174(12.45,-14.6) 175(12.75,-14.6) 176(13.05,-14.6) 265(13.05,14.6) 266(12.75,14.6) 267(12.45,14.6) 268(12.15,14.6) 269(11.85,14.6) 270(11.55,14.6) 271(11.25,14.6) 272(10.95,14.6) 273(10.65,14.6) 274(10.35,14.6) 275(10.05,14.6) 276(9.75,14.6) 277(9.45,14.6) 278(9.15,14.6) 279(8.85,14.6) 280(8.55,14.6) 281(8.25,14.6) 282(7.95,14.6) 283(7.65,14.6) 284(7.35,14.6) 285(7.05,14.6) 286(6.75,14.6) 287(6.45,14.6) 288(6.15,14.6) 289(5.85,14.6) 290(5.55,14.6) 291(5.25,14.6) 292(4.95,14.6) 293(4.65,14.6) 294(4.35,14.6) 295(4.05,14.6) 296(3.75,14.6) 297(3.45,14.6) 298(3.15,14.6) 299(2.85,14.6) 300(2.55,14.6) 301(2.25,14.6) 302(1.95,14.6) 303(1.65,14.6) 304(1.35,14.6) 305(1.05,14.6) 306(0.75,14.6) 307(0.45,14.6) 308(0.15,14.6) 309(-0.15,14.6) 310(-0.45,14.6) 311(-0.75,14.6) 312(-1.05,14.6) 313(-1.35,14.6) 314(-1.65,14.6) 315(-1.95,14.6) 316(-2.25,14.6) 317(-2.55,14.6) 318(-2.85,14.6) 319(-3.15,14.6) 320(-3.45,14.6) 321(-3.75,14.6) 322(-4.05,14.6) 323(-4.35,14.6) 324(-4.65,14.6) 325(-4.95,14.6) 326(-5.25,14.6) 327(-5.55,14.6) 328(-5.85,14.6) 329(-6.15,14.6) 330(-6.45,14.6) 331(-6.75,14.6) 332(-7.05,14.6) 333(-7.35,14.6) 334(-7.65,14.6) 335(-7.95,14.6) 336(-8.25,14.6) 337(-8.55,14.6) 338(-8.85,14.6) 339(-9.15,14.6) 340(-9.45,14.6) 341(-9.75,14.6) 342(-10.05,14.6) 343(-10.35,14.6) 344(-10.65,14.6) 345(-10.95,14.6) 346(-11.25,14.6) 347(-11.55,14.6) 348(-11.85,14.6) 349(-12.15,14.6) 350(-12.45,14.6) 351(-12.75,14.6) 352(-13.05,14.6)
Top Overlay:
  circle w0.25: c-15.96,13.05 r0.125
  circle w0.6: c-12.4,12.4 r0.3
  lines w0.2: -13.4,-13.4 13.4,-13.4 13.4,13.4 -13.4,13.4 -13.4,-13.4

## SQFP28X28-360 [mm] "QFP; 360 Leads; Body 28 x 28 mm; Pitch 0.3 mm"
height 3.75
pads (360):
  rect 1.6x0.17 smd: 1(-14.6,13.35) 2(-14.6,13.05) 3(-14.6,12.75) 4(-14.6,12.45) 5(-14.6,12.15) 6(-14.6,11.85) 7(-14.6,11.55) 8(-14.6,11.25) 9(-14.6,10.95) 10(-14.6,10.65) 11(-14.6,10.35) 12(-14.6,10.05) 13(-14.6,9.75) 14(-14.6,9.45) 15(-14.6,9.15) 16(-14.6,8.85) 17(-14.6,8.55) 18(-14.6,8.25) 19(-14.6,7.95) 20(-14.6,7.65) 21(-14.6,7.35) 22(-14.6,7.05) 23(-14.6,6.75) 24(-14.6,6.45) 25(-14.6,6.15) 26(-14.6,5.85) 27(-14.6,5.55) 28(-14.6,5.25) 29(-14.6,4.95) 30(-14.6,4.65) 31(-14.6,4.35) 32(-14.6,4.05) 33(-14.6,3.75) 34(-14.6,3.45) 35(-14.6,3.15) 36(-14.6,2.85) 37(-14.6,2.55) 38(-14.6,2.25) 39(-14.6,1.95) 40(-14.6,1.65) 41(-14.6,1.35) 42(-14.6,1.05) 43(-14.6,0.75) 44(-14.6,0.45) 45(-14.6,0.15) 46(-14.6,-0.15) 47(-14.6,-0.45) 48(-14.6,-0.75) 49(-14.6,-1.05) 50(-14.6,-1.35) 51(-14.6,-1.65) 52(-14.6,-1.95) 53(-14.6,-2.25) 54(-14.6,-2.55) 55(-14.6,-2.85) 56(-14.6,-3.15) 57(-14.6,-3.45) 58(-14.6,-3.75) 59(-14.6,-4.05) 60(-14.6,-4.35) 61(-14.6,-4.65) 62(-14.6,-4.95) 63(-14.6,-5.25) 64(-14.6,-5.55) 65(-14.6,-5.85) 66(-14.6,-6.15) 67(-14.6,-6.45) 68(-14.6,-6.75) 69(-14.6,-7.05) 70(-14.6,-7.35) 71(-14.6,-7.65) 72(-14.6,-7.95) 73(-14.6,-8.25) 74(-14.6,-8.55) 75(-14.6,-8.85) 76(-14.6,-9.15) 77(-14.6,-9.45) 78(-14.6,-9.75) 79(-14.6,-10.05) 80(-14.6,-10.35) 81(-14.6,-10.65) 82(-14.6,-10.95) 83(-14.6,-11.25) 84(-14.6,-11.55) 85(-14.6,-11.85) 86(-14.6,-12.15) 87(-14.6,-12.45) 88(-14.6,-12.75) 89(-14.6,-13.05) 90(-14.6,-13.35) 181(14.6,-13.35) 182(14.6,-13.05) 183(14.6,-12.75) 184(14.6,-12.45) 185(14.6,-12.15) 186(14.6,-11.85) 187(14.6,-11.55) 188(14.6,-11.25) 189(14.6,-10.95) 190(14.6,-10.65) 191(14.6,-10.35) 192(14.6,-10.05) 193(14.6,-9.75) 194(14.6,-9.45) 195(14.6,-9.15) 196(14.6,-8.85) 197(14.6,-8.55) 198(14.6,-8.25) 199(14.6,-7.95) 200(14.6,-7.65) 201(14.6,-7.35) 202(14.6,-7.05) 203(14.6,-6.75) 204(14.6,-6.45) 205(14.6,-6.15) 206(14.6,-5.85) 207(14.6,-5.55) 208(14.6,-5.25) 209(14.6,-4.95) 210(14.6,-4.65) 211(14.6,-4.35) 212(14.6,-4.05) 213(14.6,-3.75) 214(14.6,-3.45) 215(14.6,-3.15) 216(14.6,-2.85) 217(14.6,-2.55) 218(14.6,-2.25) 219(14.6,-1.95) 220(14.6,-1.65) 221(14.6,-1.35) 222(14.6,-1.05) 223(14.6,-0.75) 224(14.6,-0.45) 225(14.6,-0.15) 226(14.6,0.15) 227(14.6,0.45) 228(14.6,0.75) 229(14.6,1.05) 230(14.6,1.35) 231(14.6,1.65) 232(14.6,1.95) 233(14.6,2.25) 234(14.6,2.55) 235(14.6,2.85) 236(14.6,3.15) 237(14.6,3.45) 238(14.6,3.75) 239(14.6,4.05) 240(14.6,4.35) 241(14.6,4.65) 242(14.6,4.95) 243(14.6,5.25) 244(14.6,5.55) 245(14.6,5.85) 246(14.6,6.15) 247(14.6,6.45) 248(14.6,6.75) 249(14.6,7.05) 250(14.6,7.35) 251(14.6,7.65) 252(14.6,7.95) 253(14.6,8.25) 254(14.6,8.55) 255(14.6,8.85) 256(14.6,9.15) 257(14.6,9.45) 258(14.6,9.75) 259(14.6,10.05) 260(14.6,10.35) 261(14.6,10.65) 262(14.6,10.95) 263(14.6,11.25) 264(14.6,11.55) 265(14.6,11.85) 266(14.6,12.15) 267(14.6,12.45) 268(14.6,12.75) 269(14.6,13.05) 270(14.6,13.35)
  rect 0.17x1.6 smd: 91(-13.35,-14.6) 92(-13.05,-14.6) 93(-12.75,-14.6) 94(-12.45,-14.6) 95(-12.15,-14.6) 96(-11.85,-14.6) 97(-11.55,-14.6) 98(-11.25,-14.6) 99(-10.95,-14.6) 100(-10.65,-14.6) 101(-10.35,-14.6) 102(-10.05,-14.6) 103(-9.75,-14.6) 104(-9.45,-14.6) 105(-9.15,-14.6) 106(-8.85,-14.6) 107(-8.55,-14.6) 108(-8.25,-14.6) 109(-7.95,-14.6) 110(-7.65,-14.6) 111(-7.35,-14.6) 112(-7.05,-14.6) 113(-6.75,-14.6) 114(-6.45,-14.6) 115(-6.15,-14.6) 116(-5.85,-14.6) 117(-5.55,-14.6) 118(-5.25,-14.6) 119(-4.95,-14.6) 120(-4.65,-14.6) 121(-4.35,-14.6) 122(-4.05,-14.6) 123(-3.75,-14.6) 124(-3.45,-14.6) 125(-3.15,-14.6) 126(-2.85,-14.6) 127(-2.55,-14.6) 128(-2.25,-14.6) 129(-1.95,-14.6) 130(-1.65,-14.6) 131(-1.35,-14.6) 132(-1.05,-14.6) 133(-0.75,-14.6) 134(-0.45,-14.6) 135(-0.15,-14.6) 136(0.15,-14.6) 137(0.45,-14.6) 138(0.75,-14.6) 139(1.05,-14.6) 140(1.35,-14.6) 141(1.65,-14.6) 142(1.95,-14.6) 143(2.25,-14.6) 144(2.55,-14.6) 145(2.85,-14.6) 146(3.15,-14.6) 147(3.45,-14.6) 148(3.75,-14.6) 149(4.05,-14.6) 150(4.35,-14.6) 151(4.65,-14.6) 152(4.95,-14.6) 153(5.25,-14.6) 154(5.55,-14.6) 155(5.85,-14.6) 156(6.15,-14.6) 157(6.45,-14.6) 158(6.75,-14.6) 159(7.05,-14.6) 160(7.35,-14.6) 161(7.65,-14.6) 162(7.95,-14.6) 163(8.25,-14.6) 164(8.55,-14.6) 165(8.85,-14.6) 166(9.15,-14.6) 167(9.45,-14.6) 168(9.75,-14.6) 169(10.05,-14.6) 170(10.35,-14.6) 171(10.65,-14.6) 172(10.95,-14.6) 173(11.25,-14.6) 174(11.55,-14.6) 175(11.85,-14.6) 176(12.15,-14.6) 177(12.45,-14.6) 178(12.75,-14.6) 179(13.05,-14.6) 180(13.35,-14.6) 271(13.35,14.6) 272(13.05,14.6) 273(12.75,14.6) 274(12.45,14.6) 275(12.15,14.6) 276(11.85,14.6) 277(11.55,14.6) 278(11.25,14.6) 279(10.95,14.6) 280(10.65,14.6) 281(10.35,14.6) 282(10.05,14.6) 283(9.75,14.6) 284(9.45,14.6) 285(9.15,14.6) 286(8.85,14.6) 287(8.55,14.6) 288(8.25,14.6) 289(7.95,14.6) 290(7.65,14.6) 291(7.35,14.6) 292(7.05,14.6) 293(6.75,14.6) 294(6.45,14.6) 295(6.15,14.6) 296(5.85,14.6) 297(5.55,14.6) 298(5.25,14.6) 299(4.95,14.6) 300(4.65,14.6) 301(4.35,14.6) 302(4.05,14.6) 303(3.75,14.6) 304(3.45,14.6) 305(3.15,14.6) 306(2.85,14.6) 307(2.55,14.6) 308(2.25,14.6) 309(1.95,14.6) 310(1.65,14.6) 311(1.35,14.6) 312(1.05,14.6) 313(0.75,14.6) 314(0.45,14.6) 315(0.15,14.6) 316(-0.15,14.6) 317(-0.45,14.6) 318(-0.75,14.6) 319(-1.05,14.6) 320(-1.35,14.6) 321(-1.65,14.6) 322(-1.95,14.6) 323(-2.25,14.6) 324(-2.55,14.6) 325(-2.85,14.6) 326(-3.15,14.6) 327(-3.45,14.6) 328(-3.75,14.6) 329(-4.05,14.6) 330(-4.35,14.6) 331(-4.65,14.6) 332(-4.95,14.6) 333(-5.25,14.6) 334(-5.55,14.6) 335(-5.85,14.6) 336(-6.15,14.6) 337(-6.45,14.6) 338(-6.75,14.6) 339(-7.05,14.6) 340(-7.35,14.6) 341(-7.65,14.6) 342(-7.95,14.6) 343(-8.25,14.6) 344(-8.55,14.6) 345(-8.85,14.6) 346(-9.15,14.6) 347(-9.45,14.6) 348(-9.75,14.6) 349(-10.05,14.6) 350(-10.35,14.6) 351(-10.65,14.6) 352(-10.95,14.6) 353(-11.25,14.6) 354(-11.55,14.6) 355(-11.85,14.6) 356(-12.15,14.6) 357(-12.45,14.6) 358(-12.75,14.6) 359(-13.05,14.6) 360(-13.35,14.6)
Top Overlay:
  circle w0.6: c-12.4,12.4 r0.3
  circle w0.25: c-15.96,13.35 r0.125
  lines w0.2: -13.4,-13.4 -13.4,13.4 13.4,13.4 13.4,-13.4 -13.4,-13.4

## SQFP32X32-240 [mm] "QFP; 240 Leads; Body 32 x 32 mm; Pitch 0.5 mm"
height 4.2
pads (240):
  rect 1.6x0.3 smd: 1(-16.6,14.75) 2(-16.6,14.25) 3(-16.6,13.75) 4(-16.6,13.25) 5(-16.6,12.75) 6(-16.6,12.25) 7(-16.6,11.75) 8(-16.6,11.25) 9(-16.6,10.75) 10(-16.6,10.25) 11(-16.6,9.75) 12(-16.6,9.25) 13(-16.6,8.75) 14(-16.6,8.25) 15(-16.6,7.75) 16(-16.6,7.25) 17(-16.6,6.75) 18(-16.6,6.25) 19(-16.6,5.75) 20(-16.6,5.25) 21(-16.6,4.75) 22(-16.6,4.25) 23(-16.6,3.75) 24(-16.6,3.25) 25(-16.6,2.75) 26(-16.6,2.25) 27(-16.6,1.75) 28(-16.6,1.25) 29(-16.6,0.75) 30(-16.6,0.25) 31(-16.6,-0.25) 32(-16.6,-0.75) 33(-16.6,-1.25) 34(-16.6,-1.75) 35(-16.6,-2.25) 36(-16.6,-2.75) 37(-16.6,-3.25) 38(-16.6,-3.75) 39(-16.6,-4.25) 40(-16.6,-4.75) 41(-16.6,-5.25) 42(-16.6,-5.75) 43(-16.6,-6.25) 44(-16.6,-6.75) 45(-16.6,-7.25) 46(-16.6,-7.75) 47(-16.6,-8.25) 48(-16.6,-8.75) 49(-16.6,-9.25) 50(-16.6,-9.75) 51(-16.6,-10.25) 52(-16.6,-10.75) 53(-16.6,-11.25) 54(-16.6,-11.75) 55(-16.6,-12.25) 56(-16.6,-12.75) 57(-16.6,-13.25) 58(-16.6,-13.75) 59(-16.6,-14.25) 60(-16.6,-14.75) 121(16.6,-14.75) 122(16.6,-14.25) 123(16.6,-13.75) 124(16.6,-13.25) 125(16.6,-12.75) 126(16.6,-12.25) 127(16.6,-11.75) 128(16.6,-11.25) 129(16.6,-10.75) 130(16.6,-10.25) 131(16.6,-9.75) 132(16.6,-9.25) 133(16.6,-8.75) 134(16.6,-8.25) 135(16.6,-7.75) 136(16.6,-7.25) 137(16.6,-6.75) 138(16.6,-6.25) 139(16.6,-5.75) 140(16.6,-5.25) 141(16.6,-4.75) 142(16.6,-4.25) 143(16.6,-3.75) 144(16.6,-3.25) 145(16.6,-2.75) 146(16.6,-2.25) 147(16.6,-1.75) 148(16.6,-1.25) 149(16.6,-0.75) 150(16.6,-0.25) 151(16.6,0.25) 152(16.6,0.75) 153(16.6,1.25) 154(16.6,1.75) 155(16.6,2.25) 156(16.6,2.75) 157(16.6,3.25) 158(16.6,3.75) 159(16.6,4.25) 160(16.6,4.75) 161(16.6,5.25) 162(16.6,5.75) 163(16.6,6.25) 164(16.6,6.75) 165(16.6,7.25) 166(16.6,7.75) 167(16.6,8.25) 168(16.6,8.75) 169(16.6,9.25) 170(16.6,9.75) 171(16.6,10.25) 172(16.6,10.75) 173(16.6,11.25) 174(16.6,11.75) 175(16.6,12.25) 176(16.6,12.75) 177(16.6,13.25) 178(16.6,13.75) 179(16.6,14.25) 180(16.6,14.75)
  rect 0.3x1.6 smd: 61(-14.75,-16.6) 62(-14.25,-16.6) 63(-13.75,-16.6) 64(-13.25,-16.6) 65(-12.75,-16.6) 66(-12.25,-16.6) 67(-11.75,-16.6) 68(-11.25,-16.6) 69(-10.75,-16.6) 70(-10.25,-16.6) 71(-9.75,-16.6) 72(-9.25,-16.6) 73(-8.75,-16.6) 74(-8.25,-16.6) 75(-7.75,-16.6) 76(-7.25,-16.6) 77(-6.75,-16.6) 78(-6.25,-16.6) 79(-5.75,-16.6) 80(-5.25,-16.6) 81(-4.75,-16.6) 82(-4.25,-16.6) 83(-3.75,-16.6) 84(-3.25,-16.6) 85(-2.75,-16.6) 86(-2.25,-16.6) 87(-1.75,-16.6) 88(-1.25,-16.6) 89(-0.75,-16.6) 90(-0.25,-16.6) 91(0.25,-16.6) 92(0.75,-16.6) 93(1.25,-16.6) 94(1.75,-16.6) 95(2.25,-16.6) 96(2.75,-16.6) 97(3.25,-16.6) 98(3.75,-16.6) 99(4.25,-16.6) 100(4.75,-16.6) 101(5.25,-16.6) 102(5.75,-16.6) 103(6.25,-16.6) 104(6.75,-16.6) 105(7.25,-16.6) 106(7.75,-16.6) 107(8.25,-16.6) 108(8.75,-16.6) 109(9.25,-16.6) 110(9.75,-16.6) 111(10.25,-16.6) 112(10.75,-16.6) 113(11.25,-16.6) 114(11.75,-16.6) 115(12.25,-16.6) 116(12.75,-16.6) 117(13.25,-16.6) 118(13.75,-16.6) 119(14.25,-16.6) 120(14.75,-16.6) 181(14.75,16.6) 182(14.25,16.6) 183(13.75,16.6) 184(13.25,16.6) 185(12.75,16.6) 186(12.25,16.6) 187(11.75,16.6) 188(11.25,16.6) 189(10.75,16.6) 190(10.25,16.6) 191(9.75,16.6) 192(9.25,16.6) 193(8.75,16.6) 194(8.25,16.6) 195(7.75,16.6) 196(7.25,16.6) 197(6.75,16.6) 198(6.25,16.6) 199(5.75,16.6) 200(5.25,16.6) 201(4.75,16.6) 202(4.25,16.6) 203(3.75,16.6) 204(3.25,16.6) 205(2.75,16.6) 206(2.25,16.6) 207(1.75,16.6) 208(1.25,16.6) 209(0.75,16.6) 210(0.25,16.6) 211(-0.25,16.6) 212(-0.75,16.6) 213(-1.25,16.6) 214(-1.75,16.6) 215(-2.25,16.6) 216(-2.75,16.6) 217(-3.25,16.6) 218(-3.75,16.6) 219(-4.25,16.6) 220(-4.75,16.6) 221(-5.25,16.6) 222(-5.75,16.6) 223(-6.25,16.6) 224(-6.75,16.6) 225(-7.25,16.6) 226(-7.75,16.6) 227(-8.25,16.6) 228(-8.75,16.6) 229(-9.25,16.6) 230(-9.75,16.6) 231(-10.25,16.6) 232(-10.75,16.6) 233(-11.25,16.6) 234(-11.75,16.6) 235(-12.25,16.6) 236(-12.75,16.6) 237(-13.25,16.6) 238(-13.75,16.6) 239(-14.25,16.6) 240(-14.75,16.6)
Top Overlay:
  circle w0.25: c-17.96,14.75 r0.125
  lines w0.2: -15.4,-15.4 -15.4,15.4 15.4,15.4 15.4,-15.4 -15.4,-15.4

## SQFP32X32-248 [mm] "QFP; 248 Leads; Body 32 x 32 mm; Pitch 0.5 mm"
height 4.2
pads (248):
  rect 1.6x0.3 smd: 1(-16.6,15.25) 2(-16.6,14.75) 3(-16.6,14.25) 4(-16.6,13.75) 5(-16.6,13.25) 6(-16.6,12.75) 7(-16.6,12.25) 8(-16.6,11.75) 9(-16.6,11.25) 10(-16.6,10.75) 11(-16.6,10.25) 12(-16.6,9.75) 13(-16.6,9.25) 14(-16.6,8.75) 15(-16.6,8.25) 16(-16.6,7.75) 17(-16.6,7.25) 18(-16.6,6.75) 19(-16.6,6.25) 20(-16.6,5.75) 21(-16.6,5.25) 22(-16.6,4.75) 23(-16.6,4.25) 24(-16.6,3.75) 25(-16.6,3.25) 26(-16.6,2.75) 27(-16.6,2.25) 28(-16.6,1.75) 29(-16.6,1.25) 30(-16.6,0.75) 31(-16.6,0.25) 32(-16.6,-0.25) 33(-16.6,-0.75) 34(-16.6,-1.25) 35(-16.6,-1.75) 36(-16.6,-2.25) 37(-16.6,-2.75) 38(-16.6,-3.25) 39(-16.6,-3.75) 40(-16.6,-4.25) 41(-16.6,-4.75) 42(-16.6,-5.25) 43(-16.6,-5.75) 44(-16.6,-6.25) 45(-16.6,-6.75) 46(-16.6,-7.25) 47(-16.6,-7.75) 48(-16.6,-8.25) 49(-16.6,-8.75) 50(-16.6,-9.25) 51(-16.6,-9.75) 52(-16.6,-10.25) 53(-16.6,-10.75) 54(-16.6,-11.25) 55(-16.6,-11.75) 56(-16.6,-12.25) 57(-16.6,-12.75) 58(-16.6,-13.25) 59(-16.6,-13.75) 60(-16.6,-14.25) 61(-16.6,-14.75) 62(-16.6,-15.25) 125(16.6,-15.25) 126(16.6,-14.75) 127(16.6,-14.25) 128(16.6,-13.75) 129(16.6,-13.25) 130(16.6,-12.75) 131(16.6,-12.25) 132(16.6,-11.75) 133(16.6,-11.25) 134(16.6,-10.75) 135(16.6,-10.25) 136(16.6,-9.75) 137(16.6,-9.25) 138(16.6,-8.75) 139(16.6,-8.25) 140(16.6,-7.75) 141(16.6,-7.25) 142(16.6,-6.75) 143(16.6,-6.25) 144(16.6,-5.75) 145(16.6,-5.25) 146(16.6,-4.75) 147(16.6,-4.25) 148(16.6,-3.75) 149(16.6,-3.25) 150(16.6,-2.75) 151(16.6,-2.25) 152(16.6,-1.75) 153(16.6,-1.25) 154(16.6,-0.75) 155(16.6,-0.25) 156(16.6,0.25) 157(16.6,0.75) 158(16.6,1.25) 159(16.6,1.75) 160(16.6,2.25) 161(16.6,2.75) 162(16.6,3.25) 163(16.6,3.75) 164(16.6,4.25) 165(16.6,4.75) 166(16.6,5.25) 167(16.6,5.75) 168(16.6,6.25) 169(16.6,6.75) 170(16.6,7.25) 171(16.6,7.75) 172(16.6,8.25) 173(16.6,8.75) 174(16.6,9.25) 175(16.6,9.75) 176(16.6,10.25) 177(16.6,10.75) 178(16.6,11.25) 179(16.6,11.75) 180(16.6,12.25) 181(16.6,12.75) 182(16.6,13.25) 183(16.6,13.75) 184(16.6,14.25) 185(16.6,14.75) 186(16.6,15.25)
  rect 0.3x1.6 smd: 63(-15.25,-16.6) 64(-14.75,-16.6) 65(-14.25,-16.6) 66(-13.75,-16.6) 67(-13.25,-16.6) 68(-12.75,-16.6) 69(-12.25,-16.6) 70(-11.75,-16.6) 71(-11.25,-16.6) 72(-10.75,-16.6) 73(-10.25,-16.6) 74(-9.75,-16.6) 75(-9.25,-16.6) 76(-8.75,-16.6) 77(-8.25,-16.6) 78(-7.75,-16.6) 79(-7.25,-16.6) 80(-6.75,-16.6) 81(-6.25,-16.6) 82(-5.75,-16.6) 83(-5.25,-16.6) 84(-4.75,-16.6) 85(-4.25,-16.6) 86(-3.75,-16.6) 87(-3.25,-16.6) 88(-2.75,-16.6) 89(-2.25,-16.6) 90(-1.75,-16.6) 91(-1.25,-16.6) 92(-0.75,-16.6) 93(-0.25,-16.6) 94(0.25,-16.6) 95(0.75,-16.6) 96(1.25,-16.6) 97(1.75,-16.6) 98(2.25,-16.6) 99(2.75,-16.6) 100(3.25,-16.6) 101(3.75,-16.6) 102(4.25,-16.6) 103(4.75,-16.6) 104(5.25,-16.6) 105(5.75,-16.6) 106(6.25,-16.6) 107(6.75,-16.6) 108(7.25,-16.6) 109(7.75,-16.6) 110(8.25,-16.6) 111(8.75,-16.6) 112(9.25,-16.6) 113(9.75,-16.6) 114(10.25,-16.6) 115(10.75,-16.6) 116(11.25,-16.6) 117(11.75,-16.6) 118(12.25,-16.6) 119(12.75,-16.6) 120(13.25,-16.6) 121(13.75,-16.6) 122(14.25,-16.6) 123(14.75,-16.6) 124(15.25,-16.6) 187(15.25,16.6) 188(14.75,16.6) 189(14.25,16.6) 190(13.75,16.6) 191(13.25,16.6) 192(12.75,16.6) 193(12.25,16.6) 194(11.75,16.6) 195(11.25,16.6) 196(10.75,16.6) 197(10.25,16.6) 198(9.75,16.6) 199(9.25,16.6) 200(8.75,16.6) 201(8.25,16.6) 202(7.75,16.6) 203(7.25,16.6) 204(6.75,16.6) 205(6.25,16.6) 206(5.75,16.6) 207(5.25,16.6) 208(4.75,16.6) 209(4.25,16.6) 210(3.75,16.6) 211(3.25,16.6) 212(2.75,16.6) 213(2.25,16.6) 214(1.75,16.6) 215(1.25,16.6) 216(0.75,16.6) 217(0.25,16.6) 218(-0.25,16.6) 219(-0.75,16.6) 220(-1.25,16.6) 221(-1.75,16.6) 222(-2.25,16.6) 223(-2.75,16.6) 224(-3.25,16.6) 225(-3.75,16.6) 226(-4.25,16.6) 227(-4.75,16.6) 228(-5.25,16.6) 229(-5.75,16.6) 230(-6.25,16.6) 231(-6.75,16.6) 232(-7.25,16.6) 233(-7.75,16.6) 234(-8.25,16.6) 235(-8.75,16.6) 236(-9.25,16.6) 237(-9.75,16.6) 238(-10.25,16.6) 239(-10.75,16.6) 240(-11.25,16.6) 241(-11.75,16.6) 242(-12.25,16.6) 243(-12.75,16.6) 244(-13.25,16.6) 245(-13.75,16.6) 246(-14.25,16.6) 247(-14.75,16.6) 248(-15.25,16.6)
Top Overlay:
  circle w0.25: c-17.96,15.25 r0.125
  lines w0.2: -15.4,-15.4 -15.4,15.4 15.4,15.4 15.4,-15.4 -15.4,-15.4

## SQFP32X32-304 [mm] "QFP; 304 Leads; Body 32 x 32 mm; Pitch 0.4 mm"
height 4.2
pads (304):
  rect 1.6x0.25 smd: 1(-16.6,15) 2(-16.6,14.6) 3(-16.6,14.2) 4(-16.6,13.8) 5(-16.6,13.4) 6(-16.6,13) 7(-16.6,12.6) 8(-16.6,12.2) 9(-16.6,11.8) 10(-16.6,11.4) 11(-16.6,11) 12(-16.6,10.6) 13(-16.6,10.2) 14(-16.6,9.8) 15(-16.6,9.4) 16(-16.6,9) 17(-16.6,8.6) 18(-16.6,8.2) 19(-16.6,7.8) 20(-16.6,7.4) 21(-16.6,7) 22(-16.6,6.6) 23(-16.6,6.2) 24(-16.6,5.8) 25(-16.6,5.4) 26(-16.6,5) 27(-16.6,4.6) 28(-16.6,4.2) 29(-16.6,3.8) 30(-16.6,3.4) 31(-16.6,3) 32(-16.6,2.6) 33(-16.6,2.2) 34(-16.6,1.8) 35(-16.6,1.4) 36(-16.6,1) 37(-16.6,0.6) 38(-16.6,0.2) 39(-16.6,-0.2) 40(-16.6,-0.6) 41(-16.6,-1) 42(-16.6,-1.4) 43(-16.6,-1.8) 44(-16.6,-2.2) 45(-16.6,-2.6) 46(-16.6,-3) 47(-16.6,-3.4) 48(-16.6,-3.8) 49(-16.6,-4.2) 50(-16.6,-4.6) 51(-16.6,-5) 52(-16.6,-5.4) 53(-16.6,-5.8) 54(-16.6,-6.2) 55(-16.6,-6.6) 56(-16.6,-7) 57(-16.6,-7.4) 58(-16.6,-7.8) 59(-16.6,-8.2) 60(-16.6,-8.6) 61(-16.6,-9) 62(-16.6,-9.4) 63(-16.6,-9.8) 64(-16.6,-10.2) 65(-16.6,-10.6) 66(-16.6,-11) 67(-16.6,-11.4) 68(-16.6,-11.8) 69(-16.6,-12.2) 70(-16.6,-12.6) 71(-16.6,-13) 72(-16.6,-13.4) 73(-16.6,-13.8) 74(-16.6,-14.2) 75(-16.6,-14.6) 76(-16.6,-15) 153(16.6,-15) 154(16.6,-14.6) 155(16.6,-14.2) 156(16.6,-13.8) 157(16.6,-13.4) 158(16.6,-13) 159(16.6,-12.6) 160(16.6,-12.2) 161(16.6,-11.8) 162(16.6,-11.4) 163(16.6,-11) 164(16.6,-10.6) 165(16.6,-10.2) 166(16.6,-9.8) 167(16.6,-9.4) 168(16.6,-9) 169(16.6,-8.6) 170(16.6,-8.2) 171(16.6,-7.8) 172(16.6,-7.4) 173(16.6,-7) 174(16.6,-6.6) 175(16.6,-6.2) 176(16.6,-5.8) 177(16.6,-5.4) 178(16.6,-5) 179(16.6,-4.6) 180(16.6,-4.2) 181(16.6,-3.8) 182(16.6,-3.4) 183(16.6,-3) 184(16.6,-2.6) 185(16.6,-2.2) 186(16.6,-1.8) 187(16.6,-1.4) 188(16.6,-1) 189(16.6,-0.6) 190(16.6,-0.2) 191(16.6,0.2) 192(16.6,0.6) 193(16.6,1) 194(16.6,1.4) 195(16.6,1.8) 196(16.6,2.2) 197(16.6,2.6) 198(16.6,3) 199(16.6,3.4) 200(16.6,3.8) 201(16.6,4.2) 202(16.6,4.6) 203(16.6,5) 204(16.6,5.4) 205(16.6,5.8) 206(16.6,6.2) 207(16.6,6.6) 208(16.6,7) 209(16.6,7.4) 210(16.6,7.8) 211(16.6,8.2) 212(16.6,8.6) 213(16.6,9) 214(16.6,9.4) 215(16.6,9.8) 216(16.6,10.2) 217(16.6,10.6) 218(16.6,11) 219(16.6,11.4) 220(16.6,11.8) 221(16.6,12.2) 222(16.6,12.6) 223(16.6,13) 224(16.6,13.4) 225(16.6,13.8) 226(16.6,14.2) 227(16.6,14.6) 228(16.6,15)
  rect 0.25x1.6 smd: 77(-15,-16.6) 78(-14.6,-16.6) 79(-14.2,-16.6) 80(-13.8,-16.6) 81(-13.4,-16.6) 82(-13,-16.6) 83(-12.6,-16.6) 84(-12.2,-16.6) 85(-11.8,-16.6) 86(-11.4,-16.6) 87(-11,-16.6) 88(-10.6,-16.6) 89(-10.2,-16.6) 90(-9.8,-16.6) 91(-9.4,-16.6) 92(-9,-16.6) 93(-8.6,-16.6) 94(-8.2,-16.6) 95(-7.8,-16.6) 96(-7.4,-16.6) 97(-7,-16.6) 98(-6.6,-16.6) 99(-6.2,-16.6) 100(-5.8,-16.6) 101(-5.4,-16.6) 102(-5,-16.6) 103(-4.6,-16.6) 104(-4.2,-16.6) 105(-3.8,-16.6) 106(-3.4,-16.6) 107(-3,-16.6) 108(-2.6,-16.6) 109(-2.2,-16.6) 110(-1.8,-16.6) 111(-1.4,-16.6) 112(-1,-16.6) 113(-0.6,-16.6) 114(-0.2,-16.6) 115(0.2,-16.6) 116(0.6,-16.6) 117(1,-16.6) 118(1.4,-16.6) 119(1.8,-16.6) 120(2.2,-16.6) 121(2.6,-16.6) 122(3,-16.6) 123(3.4,-16.6) 124(3.8,-16.6) 125(4.2,-16.6) 126(4.6,-16.6) 127(5,-16.6) 128(5.4,-16.6) 129(5.8,-16.6) 130(6.2,-16.6) 131(6.6,-16.6) 132(7,-16.6) 133(7.4,-16.6) 134(7.8,-16.6) 135(8.2,-16.6) 136(8.6,-16.6) 137(9,-16.6) 138(9.4,-16.6) 139(9.8,-16.6) 140(10.2,-16.6) 141(10.6,-16.6) 142(11,-16.6) 143(11.4,-16.6) 144(11.8,-16.6) 145(12.2,-16.6) 146(12.6,-16.6) 147(13,-16.6) 148(13.4,-16.6) 149(13.8,-16.6) 150(14.2,-16.6) 151(14.6,-16.6) 152(15,-16.6) 229(15,16.6) 230(14.6,16.6) 231(14.2,16.6) 232(13.8,16.6) 233(13.4,16.6) 234(13,16.6) 235(12.6,16.6) 236(12.2,16.6) 237(11.8,16.6) 238(11.4,16.6) 239(11,16.6) 240(10.6,16.6) 241(10.2,16.6) 242(9.8,16.6) 243(9.4,16.6) 244(9,16.6) 245(8.6,16.6) 246(8.2,16.6) 247(7.8,16.6) 248(7.4,16.6) 249(7,16.6) 250(6.6,16.6) 251(6.2,16.6) 252(5.8,16.6) 253(5.4,16.6) 254(5,16.6) 255(4.6,16.6) 256(4.2,16.6) 257(3.8,16.6) 258(3.4,16.6) 259(3,16.6) 260(2.6,16.6) 261(2.2,16.6) 262(1.8,16.6) 263(1.4,16.6) 264(1,16.6) 265(0.6,16.6) 266(0.2,16.6) 267(-0.2,16.6) 268(-0.6,16.6) 269(-1,16.6) 270(-1.4,16.6) 271(-1.8,16.6) 272(-2.2,16.6) 273(-2.6,16.6) 274(-3,16.6) 275(-3.4,16.6) 276(-3.8,16.6) 277(-4.2,16.6) 278(-4.6,16.6) 279(-5,16.6) 280(-5.4,16.6) 281(-5.8,16.6) 282(-6.2,16.6) 283(-6.6,16.6) 284(-7,16.6) 285(-7.4,16.6) 286(-7.8,16.6) 287(-8.2,16.6) 288(-8.6,16.6) 289(-9,16.6) 290(-9.4,16.6) 291(-9.8,16.6) 292(-10.2,16.6) 293(-10.6,16.6) 294(-11,16.6) 295(-11.4,16.6) 296(-11.8,16.6) 297(-12.2,16.6) 298(-12.6,16.6) 299(-13,16.6) 300(-13.4,16.6) 301(-13.8,16.6) 302(-14.2,16.6) 303(-14.6,16.6) 304(-15,16.6)
Top Overlay:
  circle w0.6: c-14.4,14.4 r0.3
  circle w0.25: c-17.96,15 r0.125
  lines w0.2: -15.4,-15.4 15.4,-15.4 15.4,15.4 -15.4,15.4 -15.4,-15.4